# EAGLE library part PINHD-2X9 (library pinhead)
PIN HEADER
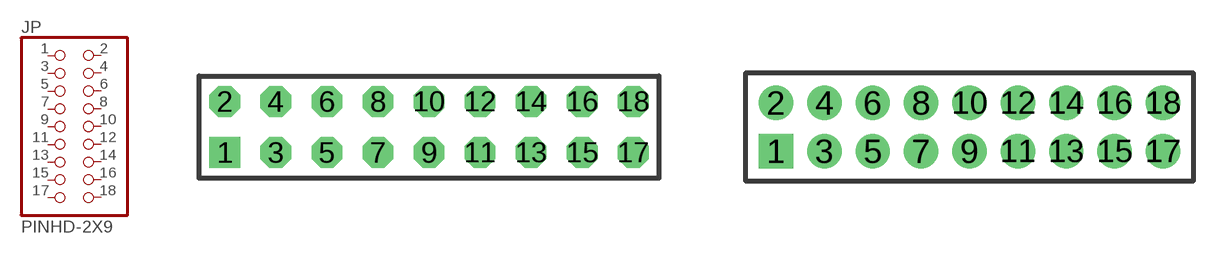
[diagram p35: symbol with the pads of 2X09; footprints 2X09, 2X09M]

Designator prefix JP

## PINHD-2X9  [2X09]
1  1  pas
2  2  pas
3  3  pas
4  4  pas
5  5  pas
6  6  pas
7  7  pas
8  8  pas
9  9  pas
10  10  pas
11  11  pas
12  12  pas
13  13  pas
14  14  pas
15  15  pas
16  16  pas
17  17  pas
18  18  pas

## PINHD-2X9M  [2X09M]
Pads as for 2X09

## Footprint 2X09 (pad centres in mm)
PIN HEADER - 0.1"
drill 1.016 square: 1 -10.16,-1.27
drill 1.016 octagon: 2 -10.16,1.27; 3 -7.62,-1.27; 4 -7.62,1.27; 5 -5.08,-1.27; 6 -5.08,1.27; 7 -2.54,-1.27; 8 -2.54,1.27; 9 0,-1.27; 10 0,1.27; 11 2.54,-1.27; 12 2.54,1.27; 13 5.08,-1.27; 14 5.08,1.27; 15 7.62,-1.27; 16 7.62,1.27; 17 10.16,-1.27; 18 10.16,1.27

## Footprint 2X09M (pad centres in mm)
PIN HEADER - 2MM"
drill 0.914 square: 1 -8,-1
drill 0.914 round: 2 -8,1; 3 -6,-1; 4 -6,1; 5 -4,-1; 6 -4,1; 7 -2,-1; 8 -2,1; 9 0,-1; 10 0,1; 11 2,-1; 12 2,1; 13 4,-1; 14 4,1; 15 6,-1; 16 6,1; 17 8,-1; 18 8,1